# Altium schematic symbol library Connectors.SchLib: 9 symbols
Pins are listed as number, name and electrical type; pins without a type are passive.

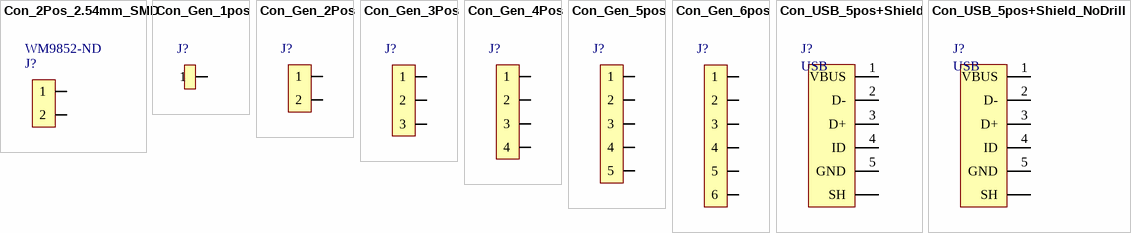
[diagram p0: symbols Con_2Pos_2.54mm_SMD to Con_USB_5pos+Shield_NoDrill]

## Con_2Pos_2.54mm_SMD
designator J?  Supplier Part Number 1: WM9852-ND  (hidden comment: *)
2 position connector; Supplier 1: Digi-Key
footprint 1x2 SMD header (2.54 mm pitch, angled legs, MPN: 87898-0204)
pins: 1, 2

## Con_Gen_1pos
designator J?  (value not drawn)
1 position connetor
footprint Pin Header 1x1 TH Pitch 2.54mm (PinHeader 1x1 TH Pitch 2.54mm)
pins: 1

## Con_Gen_2Pos
designator J?  (value not drawn)
2 position connector
footprint Pin Header 1x2 TH Pitch 2.54mm (PinHeader 1x2 TH Pitch 2.54mm)
pins: 1, 2

## Con_Gen_3Pos
designator J?
3 position connector
footprint Pin Header 1x3 TH Pitch 2.54mm (PinHeader 1x3 TH Pitch 2.54mm)
pins: 1, 2, 3

## Con_Gen_4Pos
designator J?
4 position connector
footprint Pin Header 1x4 TH Pitch 2.54mm (PinHeader 1x4 TH Pitch 2.54mm)
pins: 1, 2, 3, 4

## Con_Gen_5pos
designator J?
5 position connector
footprint Pin Header 1x4 TH Pitch 2.54mm (PinHeader 1x4 TH Pitch 2.54mm)
pins: 1, 2, 3, 4, 5

## Con_Gen_6pos
designator J?  (value not drawn)
6 position connector
footprint Pin Header 1x6 TH Pitch 2.54mm (PinHeader 1x6 TH Pitch 2.54mm)
pins: 1, 2, 3, 4, 5, 6

## Con_USB_5pos+Shield
designator J?, comment USB
USB 2.0 Connector, Shielded
footprint CON_uUSB_DRILL (MPN: UJ2-MIBH2-4-SMT)
pins: 1 VBUS, 2 D-, 3 D+, 4 ID, 5 GND, SH

## Con_USB_5pos+Shield_NoDrill
designator J?, comment USB
USB 2.0 Connector, Shielded, NoDrill
footprint CON_uUSB_NODRILL (ZX62-AB-5PA(31))
pins: 1 VBUS, 2 D-, 3 D+, 4 ID, 5 GND, SH